# Altium schematic symbol library GENERIC_D_TVS.SchLib: 1 symbol
Pins are listed as number, name and electrical type; pins without a type are passive.

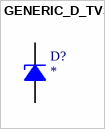
[diagram p0: symbol GENERIC_D_TVS]

## GENERIC_D_TVS
designator D?
pins: 1 K, 2 A